# Altium schematic symbol library Andy_Parts.SchLib: 182 symbols (part 2 of 2)
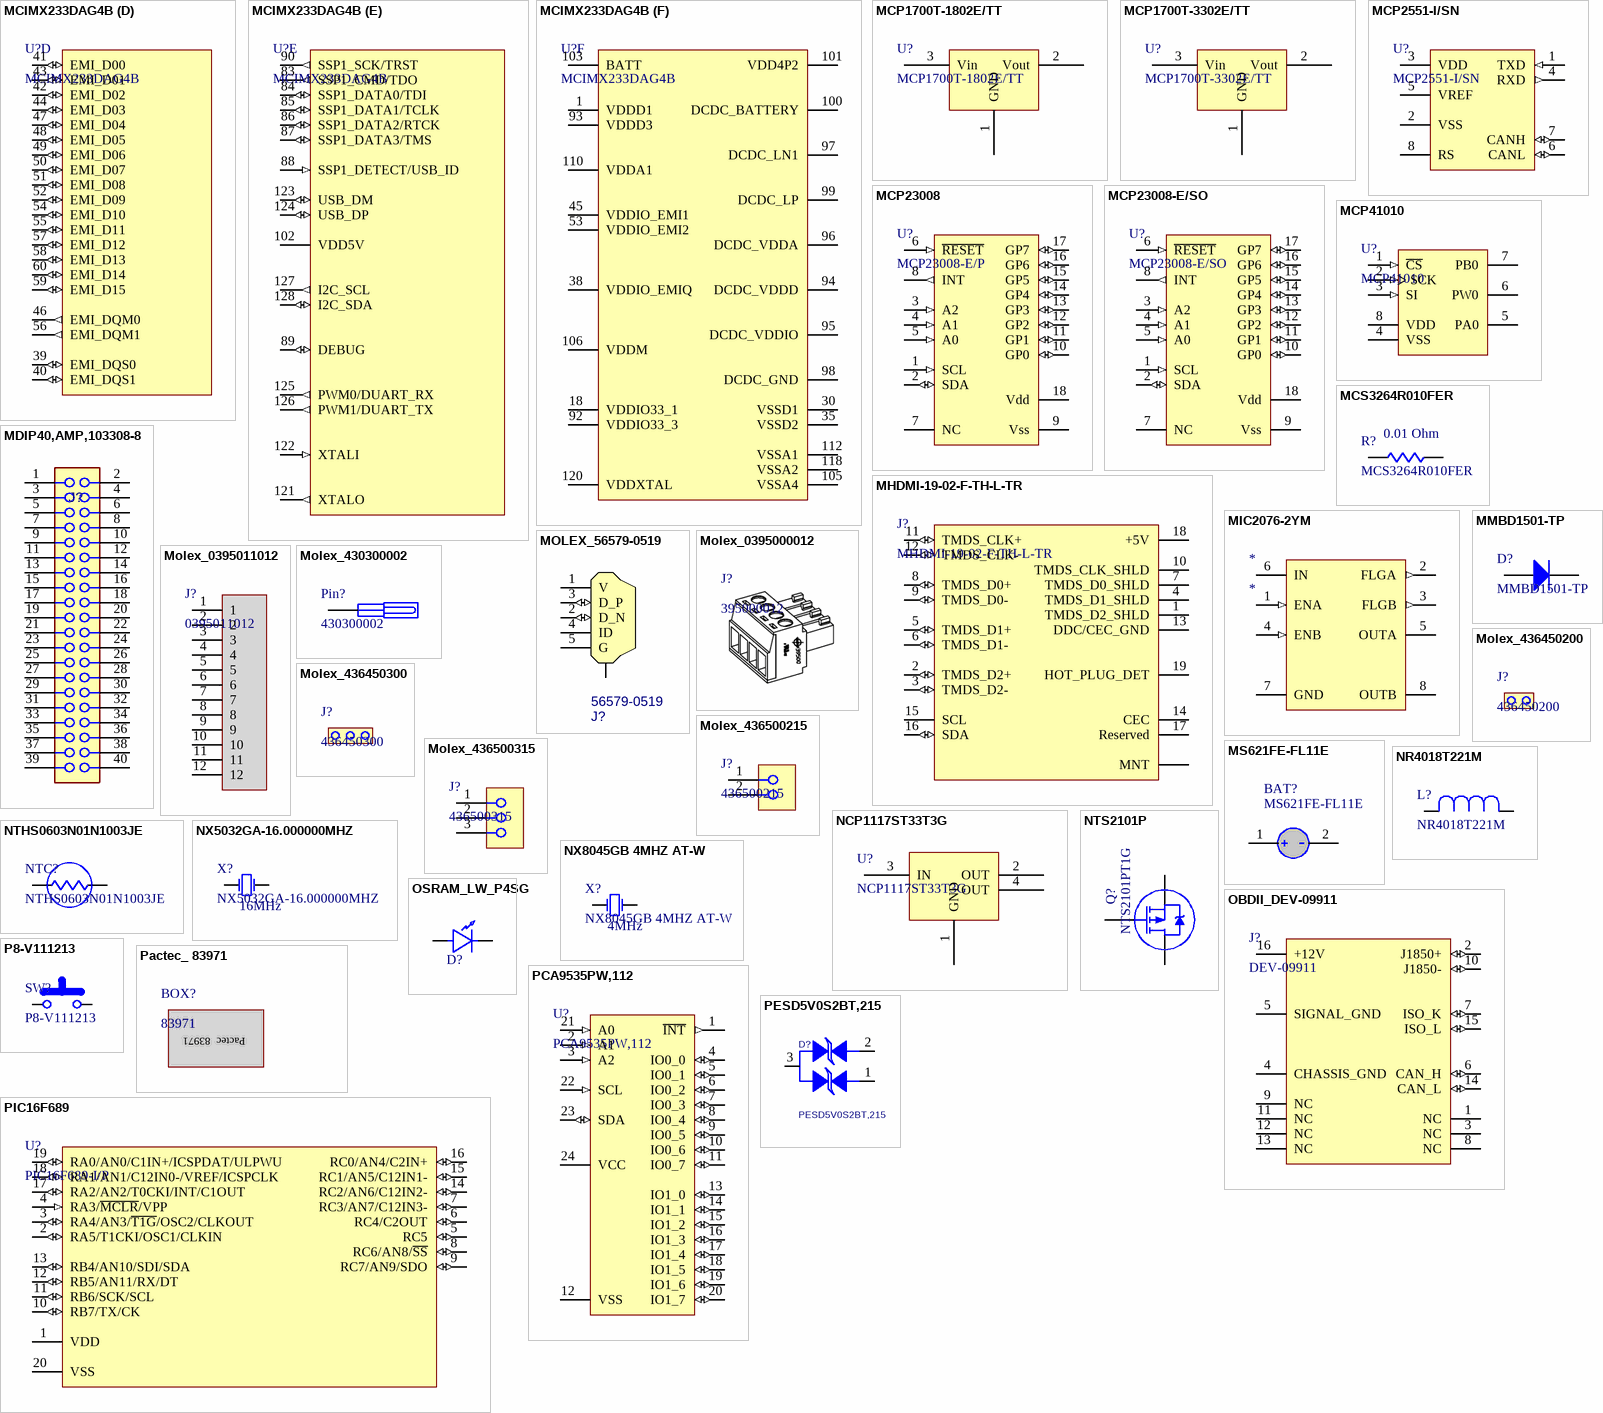
[diagram p9: symbols MCIMX233DAG4B to PIC16F689]

## MCIMX233DAG4B
designator U?
MPU 32BIT I.MX233 128LQFP; Manufacturer: Freescale; PartNumber: MCIMX233DAG4B
footprint LQFP50P1600X2200X160-128N (LQFP, 128-Leads, Body 22.1x16.1mm (max), Pitch 0.50mm, IPC Medium Density)
part A pins: 21 GPMI_RDY1 (out), 31 GPMI_RDN (out), 32 GPMI_RDY0 (out), 33 GPMI_WRN (out), 34 GPMI_WPN (out), 81 GPMI_CE1N (out), 82 GPMI_CE0N (out), 91 PWM2 (out), 104 VDAC1 (out), 107 LRADC1, 108 LRADC0, 109 HPR, 111 HP_VGND (power), 113 HPL, 114 LINE1_INR, 115 LINE1_INL, 116 MIC, 117 VAG, 119 PSWITCH (in)
part B pins: 2 LCD_D00 (io), 3 LCD_D01 (io), 4 LCD_D02 (io), 5 LCD_D03 (io), 6 LCD_D04 (io), 7 LCD_D05 (io), 8 LCD_D06 (io), 9 LCD_D07 (io), 10 LCD_CS (out), 11 LCD_ENABLE (out), 12 LCD_RESET (out), 13 LCD_WR (out), 14 LCD_RS (out), 15 LCD_HSYNC (out), 16 LCD_VSYNC/LCD_BUSY (out), 17 LCD_DOTCK (out), 19 GPMI_CLE/LCD_D16 (io), 20 GPMI_ALE/LCD_D17 (io), 22 GPMI_D00/LCD_D8 (io), 23 GPMI_D01/LCD_D9 (io), 24 GPMI_D02/LCD_D10 (io), 25 GPMI_D03/LCD_D11 (io), 26 GPMI_D05/LCD_D13 (io), 27 GPMI_D04/LCD_D12 (io), 28 GPMI_D07/LCD_D15 (io), 29 GPMI_D06/LCD_D14 (io)
part C pins: 36 EMI_CLK (out), 37 EMI_CLKN (out), 61 EMI_CASN (out), 62 EMI_RASN (out), 63 EMI_CE0N (out), 64 EMI_A12 (out), 65 EMI_A11 (out), 66 EMI_A10 (out), 67 EMI_A09 (out), 68 EMI_A08 (out), 69 EMI_A07 (out), 70 EMI_A06 (out), 71 EMI_A05 (out), 72 EMI_A04 (out), 73 EMI_A03 (out), 74 EMI_A02 (out), 75 EMI_A01 (out), 76 EMI_A00 (out), 77 EMI_WEN (out), 78 EMI_CKE (out), 79 EMI_BA0 (out), 80 EMI_BA1 (out)
part D pins: 39 EMI_DQS0 (io), 40 EMI_DQS1 (io), 41 EMI_D00 (io), 42 EMI_D02 (io), 43 EMI_D01 (io), 44 EMI_D03 (io), 46 EMI_DQM0 (out), 47 EMI_D04 (io), 48 EMI_D05 (io), 49 EMI_D06 (io), 50 EMI_D07 (io), 51 EMI_D08 (io), 52 EMI_D09 (io), 54 EMI_D10 (io), 55 EMI_D11 (io), 56 EMI_DQM1 (out), 57 EMI_D12 (io), 58 EMI_D13 (io), 59 EMI_D15 (io), 60 EMI_D14 (io)
part E pins: 83 SSP1_CMD/TDO (out), 84 SSP1_DATA0/TDI (io), 85 SSP1_DATA1/TCLK (io), 86 SSP1_DATA2/RTCK (io), 87 SSP1_DATA3/TMS (io), 88 SSP1_DETECT/USB_ID (in), 89 DEBUG (io), 90 SSP1_SCK/TRST (out), 102 VDD5V (power), 121 XTALO (out), 122 XTALI (in), 123 USB_DM (io), 124 USB_DP (io), 125 PWM0/DUART_RX (out), 126 PWM1/DUART_TX (out), 127 I2C_SCL (out), 128 I2C_SDA (io)
part F pins: 1 VDDD1 (power), 18 VDDIO33_1 (power), 30 VSSD1 (power), 35 VSSD2 (power), 38 VDDIO_EMIQ (power), 45 VDDIO_EMI1 (power), 53 VDDIO_EMI2 (power), 92 VDDIO33_3 (power), 93 VDDD3 (power), 94 DCDC_VDDD (power), 95 DCDC_VDDIO (power), 96 DCDC_VDDA (power), 97 DCDC_LN1, 98 DCDC_GND (power), 99 DCDC_LP, 100 DCDC_BATTERY (power), 101 VDD4P2 (power), 103 BATT (power), 105 VSSA4 (power), 106 VDDM (power), 110 VDDA1 (power), 112 VSSA1 (power), 118 VSSA2 (power), 120 VDDXTAL (power)

## MCP1700T-1802E/TT
designator U?
IC LDO REG 250MA 1.8V SOT-23-3; Manufacturer: Microchip Technology; PartNumber: MCP1700T-1802E/TT
footprint SOT23 (SOT23, 3-Leads, Body 3.0x2.6mm, Pitch 0.95mm)
pins: 1 GND (power), 2 Vout (power), 3 Vin (power)

## MCP1700T-3302E/TT
designator U?
IC LDO REG 250MA 3.3V SOT-23-3; Manufacturer: Microchip Technology; PartNumber: MCP1700T-3302E/TT
footprint SOT23 (SOT23, 3-Leads, Body 3.0x2.6mm, Pitch 0.95mm)
pins: 1 GND (power), 2 Vout (power), 3 Vin (power)

## MCP2551-I/SN
designator U?
IC TRANSCEIVER CAN HI-SPD 8-SOIC; Manufacturer: Microchip Technology; PartNumber: MCP2551-I/SN
footprint SOIC8N (SOIC, 8-Leads, Body 5.0x4.0mm (max), Pitch 1.27mm, IPC Medium Density)
pins: 1 TXD (in), 2 VSS (power), 3 VDD (power), 4 RXD (out), 5 VREF, 6 CANL (io), 7 CANH (io), 8 RS

## MCP23008
designator U?, comment MCP23008-E/P
8-bit IO Expander, I2C; Manufacturer: Microchip; PartNumber: MCP23008-E/P
footprint DIP 18 (DIP; 18 Leads; Row Spacing 7.62 mm; Pitch 2.54 mm)
pins: 1 SCL (in), 2 SDA (io), 3 A2 (in), 4 A1 (in), 5 A0 (in), 6 ~{RESET} (in), 7 NC, 8 INT (out), 9 Vss (power), 10 GP0 (io), 11 GP1 (io), 12 GP2 (io), 13 GP3 (io), 14 GP4 (io), 15 GP5 (io), 16 GP6 (io), 17 GP7 (io), 18 Vdd (power)

## MCP23008-E/SO
designator U?
8-bit IO Expander, I2C, SOIC; Manufacturer: Microchip; PartNumber: MCP23008-E/SO
footprint SOIC127P1030X75-18N (SOIC, 18-Leads, Body 11.5x7.5mm (max), Pitch 1.27mm, IPC Medium Density)
pins: 1 SCL (in), 2 SDA (io), 3 A2 (in), 4 A1 (in), 5 A0 (in), 6 ~{RESET} (in), 7 NC, 8 INT (out), 9 Vss (power), 10 GP0 (io), 11 GP1 (io), 12 GP2 (io), 13 GP3 (io), 14 GP4 (io), 15 GP5 (io), 16 GP6 (io), 17 GP7 (io), 18 Vdd (power)

## MCP41010
designator U?
Digital potentiometer w/ SPI interface; Manufacturer: Microchip; PartNumber: MCP41010
footprint DIP 8 (DIP, Plastic; 8 Leads; Row Spacing 7.62 mm; Pitch 2.54 mm)
pins: 1 ~{CS} (in), 2 SCK (in), 3 SI (in), 4 VSS (power), 5 PA0, 6 PW0, 7 PB0, 8 VDD (power)

## MCS3264R010FER
designator R?  value 0.01 Ohm
RES CURRENT SENSE .010 OHM 2W 1%; Manufacturer: Ohmite; PartNumber: MCS3264R010FER
footprint R2512 (Chip Resistor, 2-Leads, Body 6.4x3.2mm, IPC High Density)
pins: 1, 2

## MDIP40,AMP,103308-8
designator J?, comment 103308-8  (value not drawn)
.100 Inch Centerline-AMPMODU Shrouded Header, 40 pin; Manufacturer: Tyco/AMP; Approved: Yes by Implementation; TargetLibrary: Signal Connectors; LeadFree: No; PartNumber: 103308-8; Published: 8/6/2009; Publisher: Vanteon; RoHS: No; ComponentLink1Description: Product Page; ComponentLink1URL: http://www.tycoelectronics.com/catalog/bin/TE.Connect?C=1&M=BYPN&TCPN=103308-8&RQPN=103308-8; Status: Active; Supplier 1: Digi-Key; Supplier Part Number 1: A26279-ND
footprint MDIP40,AMP,103308-8
pins: 1, 2, 3, 4, 5, 6, 7, 8, 9, 10, 11, 12, 13, 14, 15, 16, 17, 18, 19, 20, 21, 22, 23, 24, 25, 26, 27, 28, 29, 30, 31, 32, 33, 34, 35, 36, 37, 38, 39, 40

## MHDMI-19-02-F-TH-L-TR
designator J?
Samtec Mini HDMI Connector; Manufacturer: Samtec; PartNumber: MHDMI-19-02-F-TH-L-TR
footprint Mini_HDMI (Samtec Mini HDMI Connector)
pins: 1 TMDS_D2_SHLD (power), 2 TMDS_D2+ (io), 3 TMDS_D2- (io), 4 TMDS_D1_SHLD (power), 5 TMDS_D1+ (io), 6 TMDS_D1- (io), 7 TMDS_D0_SHLD (power), 8 TMDS_D0+ (io), 9 TMDS_D0- (io), 10 TMDS_CLK_SHLD (power), 11 TMDS_CLK+ (io), 12 TMDS_CLK- (io), 13 DDC/CEC_GND (power), 14 CEC, 15 SCL, 16 SDA (io), 17 Reserved, 18 +5V (power), 19 HOT_PLUG_DET, MNT (power)

## MIC2076-2YM
designator *
footprint SOIC8N (SOIC, 8-Leads, Body 5.0x4.0mm (max), Pitch 1.27mm, IPC Medium Density)
pins: 1 ENA (in), 2 FLGA (out), 3 FLGB (out), 4 ENB (in), 5 OUTA (power), 6 IN (power), 7 GND (power), 8 OUTB (power)

## MMBD1501-TP
designator D?
Fast recovery diode, 600mA, 180V; Manufacturer: Micro Commercial Co.; PartNumber: MMBD1501-TP
footprint SOT23 (SOT23, 3-Leads, Body 3.0x2.6mm, Pitch 0.95mm)
pins: 1 A, 3 K

## MOLEX_56579-0519
designator J?, comment 56579-0519
USB - mini AB, OTG; Manufacturer: Molex; PartNumber: 56579-0519
footprint MOLEX_56579-0519 (USB Mini Type AB OTG, Through Hole, Molex)
pins: 1 V (power), 2 D_N (io), 3 D_P (io), 4 ID, 5 G (power), MNT

## Molex_0395000012
designator J?, comment 395000012
3.50mm (.138") Pitch Eurostyle Horizontal Plug, 12 Circuits; Manufacturer: Molex; PartNumber: 395000012
footprint Molex_395000012 (Molex 395000012 footprint)

## Molex_0395011012
designator J?, comment 0395011012
3.50mm (.138") Pitch Eurostyle Vertical PCB Header, 12 Circuits; Manufacturer: Molex; PartNumber: 0395011012
footprint Molex_395011012 (Molex 395011012 footprint)
pins: 1, 2, 3, 4, 5, 6, 7, 8, 9, 10, 11, 12

## Molex_430300002
designator Pin?, comment 430300002  (mechanical)
Pins for Molex Microfit receptacles; PartNumber: 430300002; Manufacturer: Molex; Supplier 1: Digi-Key

## Molex_436450200
designator J?, comment 436450200  (mechanical)
Molex 2 pin Microfit receptacle; PartNumber: 436450200; Manufacturer: Molex; Supplier 1: Digi-Key

## Molex_436450300
designator J?, comment 436450300  (mechanical)
Molex 3 pin Microfit receptacle; PartNumber: 436450300; Manufacturer: Molex; Supplier 1: Digi-Key

## Molex_436500215
designator J?, comment 436500215
2 pin Microfit header; Manufacturer: Molex; PartNumber: 436500215; Supplier 1: Digi-Key
footprint Microfit 2 pin (Molex Microfit header, 2 pin)
pins: 1, 2

## Molex_436500315
designator J?, comment 436500315
3 pin Microfit header; Manufacturer: Molex; PartNumber: 436500315; Supplier 1: Digi-Key
footprint Microfit 3 pin (Molex Microfit header, 3 pin)
pins: 1, 2, 3

## MS621FE-FL11E
designator BAT?
BATTERY LITHIUM 3.1V RECHARGE; Manufacturer: Seiko Instruments; Capacity: 5.5mAh; PartNumber: MS621FE-FL11E; Voltage: 3.1V
footprint MS621FE-FL11E (6.8mm diameter rechargeable coin cell battery)
pins: 1 (power), 2 (power)

## NCP1117ST33T3G
designator U?
3.3V LDO, 1A, SOT-223; Manufacturer: ON Semiconductor; PartNumber: NCP1117ST33T3G; Supplier 1: Digi-Key
footprint SOT223 (SOT223, 4-Leads, Body 6.7x7.3mm (max), Pitch 2.30mm)
pins: 1 GND (power), 2 OUT (power), 3 IN (power), 4 OUT (power)

## NR4018T221M
designator L?
220uH inductor, 4.8Ohm, 170mA, 20%; Manufacturer: Taiyo Yuden; PartNumber: NR4018T221M
footprint NR4018 (Taiyo Yuden NR4018 series inductor footprint)
pins: 1, 2

## NTHS0603N01N1003JE
designator NTC?
THERMISTOR NTC 100K OHM 5% 0603; Manufacturer: Vishay/Dale; PartNumber: NTHS0603N01N1003JE
footprint R0603 (Chip Resistor, 2-Leads, Body 1.7x0.8mm, IPC High Density)
pins: 1, 2

## NTS2101P
designator Q?, comment NTS2101PT1G
P-channel Power MOSFET  -8.0 V, -1.4 A, SC-70; Manufacturer: ON Semiconductor; PartNumber: NTS2101PT1G
footprint SC70 (SOT23, 3-Leads, Body 2.2x2.4mm (max), Pitch 0.65mm)
pins: 1 G, 2 S, 3 D

## NX5032GA-16.000000MHZ
designator X?  value 16MHz
CRYSTAL 16.00 MHZ 8PF SMD; Manufacturer: NDK; PartNumber: NX5032GA-16.000000MHZ
footprint NX5032GA-16.000000MHZ (NDK NX5032GA series crystal footprint)
pins: 1 OSC1, 2 OSC2

## NX8045GB 4MHZ AT-W
designator X?  value 4MHz
CRYSTAL 4.00 MHZ 8PF SMD; Manufacturer: NDK; PartNumber: NX8045GB 4MHZ AT-W
footprint NX8045GB 4MHZ AT-W (NDK NX8045GB series crystal footprint)
pins: 1 OSC1, 2 OSC2

## OBDII_DEV-09911
designator J?, comment DEV-09911
OBD-II Connector; Manufacturer: SparkFun Electronics; PartNumber: DEV-09911
footprint DEV-09911 (OBD-II Connector)
pins: 1 NC, 2 J1850+ (io), 3 NC, 4 CHASSIS_GND (power), 5 SIGNAL_GND (power), 6 CAN_H (io), 7 ISO_K (io), 8 NC, 9 NC, 10 J1850- (io), 11 NC, 12 NC, 13 NC, 14 CAN_L (io), 15 ISO_L (io), 16 +12V (power)

## OSRAM_LW_P4SG
designator D?, comment White  (value not drawn)
OSRAM Bottom Mount White LED; PartNumber: LW P4SG-U2AA-5K8L-Z; Vf: 3.2V; Value: White; Manufacturer: OSRAM; Publisher: Vanteon
footprint OSRAM_BOTTOM_LED (Bottom Mount LED)
pins: A, C

## P8-V111213
designator SW?  (graphical)
VANDAL RESISTANT COMPACT PUSHBUTTON SWITCH; Manufacturer: OTTO Engineering; PartNumber: P8-V111213
pins: 1, 3

## Pactec_ 83971
designator BOX?, comment 83971  (graphical)
Pactec water tight  enclosure; Manufacturer: Pactec; PartNumber: 83971
text: Pactec  83971

## PCA9535PW,112
designator U?
IC I/O EXPANDER I2C 16B 24TSSOP; Manufacturer: NXP Semiconductors; PartNumber: PCA9535PW,112
footprint TSOP65P640X110-24N (TSOP, 24-Leads, Body 7.9x4.5mm (max), Pitch 0.65mm, IPC Medium Density)
pins: 1 ~{INT} (out), 2 A1 (in), 3 A2 (in), 4 IO0_0 (io), 5 IO0_1 (io), 6 IO0_2 (io), 7 IO0_3 (io), 8 IO0_4 (io), 9 IO0_5 (io), 10 IO0_6 (io), 11 IO0_7 (io), 12 VSS (power), 13 IO1_0 (io), 14 IO1_1 (io), 15 IO1_2 (io), 16 IO1_3 (io), 17 IO1_4 (io), 18 IO1_5 (io), 19 IO1_6 (io), 20 IO1_7 (io), 21 A0 (in), 22 SCL (in), 23 SDA (io), 24 VCC (power)

## PESD5V0S2BT,215
designator D?
DIODE BIDIR ESD PROTECT SOT23; Manufacturer: NXP Semiconductors; Voltage: 5V; PartNumber: PESD5V0S2BT,215
footprint SOT23 (SOT23, 3-Leads, Body 3.0x2.6mm, Pitch 0.95mm)
pins: 1, 2, 3

## PIC16F689
designator U?, comment PIC16F689-I/P
20MHz, 18 GPIO, 256 byte RAM, 4Kx14 program; Manufacturer: Microchip Technology; PartNumber: PIC16F689-I/P
footprint Skinny DIP 20 (Skinny DIP, 20 pins)
pins: 1 VDD (power), 2 RA5/T1CKI/OSC1/CLKIN (io), 3 RA4/AN3/~{T1G}/OSC2/CLKOUT (io), 4 RA3/~{MCLR}/VPP (in), 5 RC5 (io), 6 RC4/C2OUT (io), 7 RC3/AN7/C12IN3- (io), 8 RC6/AN8/~{SS} (io), 9 RC7/AN9/SDO (io), 10 RB7/TX/CK (io), 11 RB6/SCK/SCL (io), 12 RB5/AN11/RX/DT (io), 13 RB4/AN10/SDI/SDA (io), 14 RC2/AN6/C12IN2- (io), 15 RC1/AN5/C12IN1- (io), 16 RC0/AN4/C2IN+ (io), 17 RA2/AN2/T0CKI/INT/C1OUT (io), 18 RA1/AN1/C12IN0-/VREF/ICSPCLK (io), 19 RA0/AN0/C1IN+/ICSPDAT/ULPWU (io), 20 VSS (power)

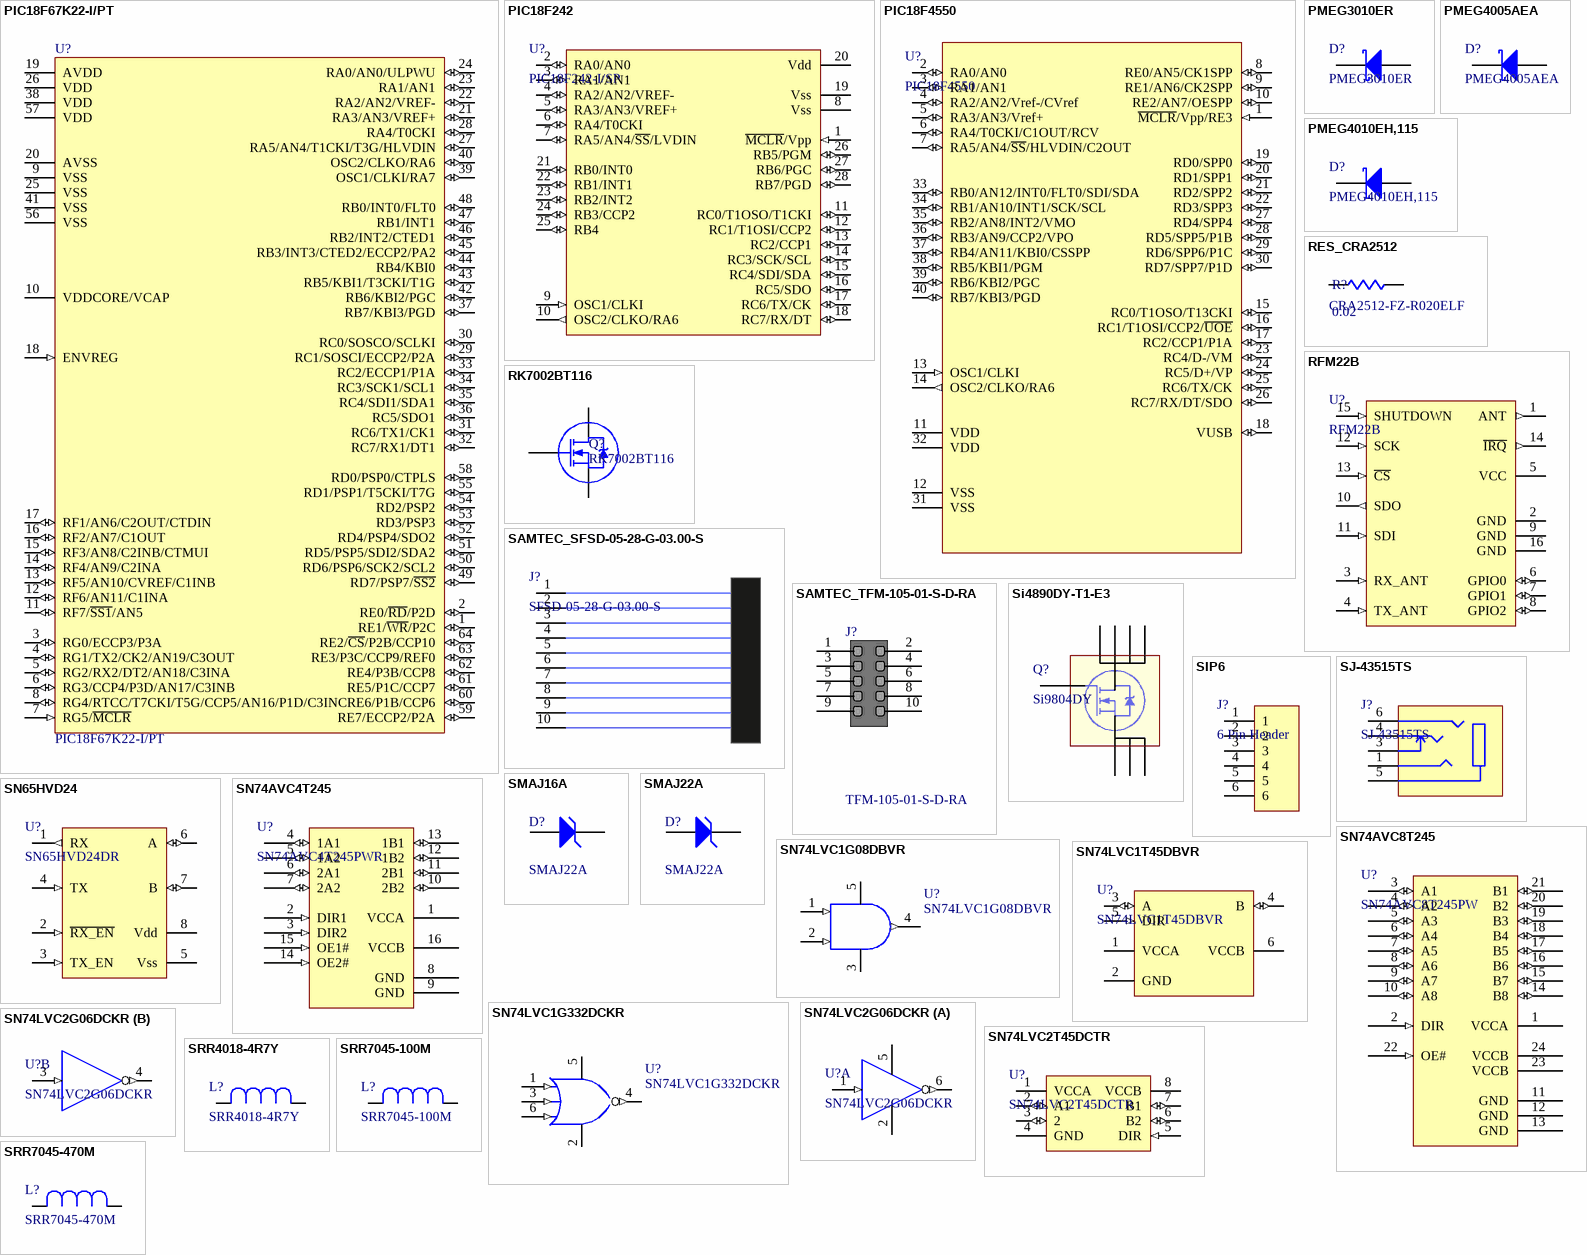
[diagram p7: symbols PIC18F67K22-I/PT to SRR7045-470M]

## PIC18F67K22-I/PT
designator U?
1-Mbit, Enhanced Flash Microcontroller with 12-Bit A/D and nanoWatt Technology, 128K Flash, 64-Pin TQFP, Extended Temperature Range; FirstPublished: 29-Jan-2009; DatasheetVersion: revC, Oct-2008; PackageVersion: revBB, Aug-2009; PackageReference: TQFP-PT64; Publisher: Altium Limited; PackageDescription: 64-Lead Thin Plastic Quad Flat Pack (PT) - 10x10x1mm Body, 2.00mm [TQFP]; ComponentLink1Description: Datasheet; ComponentLink1URL: http://ww1.microchip.com/downloads/en/DeviceDoc/39960b.pdf; ComponentLink2Description: Packaging Specification; ComponentLink2URL: http://www.microchip.com/stellent/groups/techpub_sg/documents/packagingspec/en012702.pdf; ComponentLink3Description: Microchip.com Home; ComponentLink3URL: http://www.microchip.com/; PartNumber: PIC18F67K22-I/PT
footprint TQFP-64_N (64-Pin Thin Plastic Quad Flat Pack 0.5 mm Pitch, 1.0/0.1 mm Lead Form, IPC Medium Density)
pins: 1 RE1/~{WR}/P2C (io), 2 RE0/~{RD}/P2D (io), 3 RG0/ECCP3/P3A (io), 4 RG1/TX2/CK2/AN19/C3OUT (io), 5 RG2/RX2/DT2/AN18/C3INA (io), 6 RG3/CCP4/P3D/AN17/C3INB (io), 7 RG5/~{MCLR} (in), 8 RG4/RTCC/T7CKI/T5G/CCP5/AN16/P1D/C3INC (io), 9 VSS (power), 10 VDDCORE/VCAP (power), 11 RF7/~{SS1}/AN5 (io), 12 RF6/AN11/C1INA (io), 13 RF5/AN10/CVREF/C1INB (io), 14 RF4/AN9/C2INA (io), 15 RF3/AN8/C2INB/CTMUI (io), 16 RF2/AN7/C1OUT (io), 17 RF1/AN6/C2OUT/CTDIN (io), 18 ENVREG (in), 19 AVDD (power), 20 AVSS (power), 21 RA3/AN3/VREF+ (io), 22 RA2/AN2/VREF- (io), 23 RA1/AN1 (io), 24 RA0/AN0/ULPWU (io), 25 VSS (power), 26 VDD (power), 27 RA5/AN4/T1CKI/T3G/HLVDIN (io), 28 RA4/T0CKI (io), 29 RC1/SOSCI/ECCP2/P2A (io), 30 RC0/SOSCO/SCLKI (io), 31 RC6/TX1/CK1 (io), 32 RC7/RX1/DT1 (io), 33 RC2/ECCP1/P1A (io), 34 RC3/SCK1/SCL1 (io), 35 RC4/SDI1/SDA1 (io), 36 RC5/SDO1 (io), 37 RB7/KBI3/PGD (io), 38 VDD (power), 39 OSC1/CLKI/RA7 (io), 40 OSC2/CLKO/RA6 (io), 41 VSS (power), 42 RB6/KBI2/PGC (io), 43 RB5/KBI1/T3CKI/T1G (io), 44 RB4/KBI0 (io), 45 RB3/INT3/CTED2/ECCP2/PA2 (io), 46 RB2/INT2/CTED1 (io), 47 RB1/INT1 (io), 48 RB0/INT0/FLT0 (io), 49 RD7/PSP7/~{SS2} (io), 50 RD6/PSP6/SCK2/SCL2 (io), 51 RD5/PSP5/SDI2/SDA2 (io), 52 RD4/PSP4/SDO2 (io), 53 RD3/PSP3 (io), 54 RD2/PSP2 (io), 55 RD1/PSP1/T5CKI/T7G (io), 56 VSS (power), 57 VDD (power), 58 RD0/PSP0/CTPLS (io), 59 RE7/ECCP2/P2A (io), 60 RE6/P1B/CCP6 (io), 61 RE5/P1C/CCP7 (io), 62 RE4/P3B/CCP8 (io), 63 RE3/P3C/CCP9/REF0 (io), 64 RE2/~{CS}/P2B/CCP10 (io)

## PIC18F242
designator U?, comment PIC18F242-I/SP
40MHz 8kx16 Flash microcontroller.  23 GPIO; Manufacturer: Microchip Technology; PartNumber: PIC18F242-I/SP
footprint Skinny DIP28 (Skinny DIP, 28 pins)
pins: 1 ~{MCLR}/Vpp (in), 2 RA0/AN0 (io), 3 RA1/AN1 (io), 4 RA2/AN2/VREF- (io), 5 RA3/AN3/VREF+ (io), 6 RA4/T0CKI (io), 7 RA5/AN4/~{SS}/LVDIN (io), 8 Vss (power), 9 OSC1/CLKI (in), 10 OSC2/CLKO/RA6 (out), 11 RC0/T1OSO/T1CKI (io), 12 RC1/T1OSI/CCP2 (io), 13 RC2/CCP1 (io), 14 RC3/SCK/SCL (io), 15 RC4/SDI/SDA (io), 16 RC5/SDO (io), 17 RC6/TX/CK (io), 18 RC7/RX/DT (io), 19 Vss (power), 20 Vdd (power), 21 RB0/INT0 (io), 22 RB1/INT1 (io), 23 RB2/INT2 (io), 24 RB3/CCP2 (io), 25 RB4 (io), 26 RB5/PGM (io), 27 RB6/PGC (io), 28 RB7/PGD (io)

## PIC18F4550
designator U?
8 Bit USB FS microcontroller; Manufacturer: Microchip; PartNumber: PIC18F4550
footprint DIP 40 (DIP, Plastic; 40 Leads; Row Spacing 15.24 mm; Pitch 2.54 mm)
pins: 1 ~{MCLR}/Vpp/RE3 (in), 2 RA0/AN0 (io), 3 RA1/AN1 (io), 4 RA2/AN2/Vref-/CVref (io), 5 RA3/AN3/Vref+ (io), 6 RA4/T0CKI/C1OUT/RCV (io), 7 RA5/AN4/~{SS}/HLVDIN/C2OUT (io), 8 RE0/AN5/CK1SPP (io), 9 RE1/AN6/CK2SPP (io), 10 RE2/AN7/OESPP (io), 11 VDD (power), 12 VSS (power), 13 OSC1/CLKI (in), 14 OSC2/CLKO/RA6 (out), 15 RC0/T1OSO/T13CKI (io), 16 RC1/T1OSI/CCP2/~{UOE} (io), 17 RC2/CCP1/P1A (io), 18 VUSB (io), 19 RD0/SPP0 (io), 20 RD1/SPP1 (io), 21 RD2/SPP2 (io), 22 RD3/SPP3 (io), 23 RC4/D-/VM (io), 24 RC5/D+/VP (io), 25 RC6/TX/CK (io), 26 RC7/RX/DT/SDO (io), 27 RD4/SPP4 (io), 28 RD5/SPP5/P1B (io), 29 RD6/SPP6/P1C (io), 30 RD7/SPP7/P1D (io), 31 VSS (power), 32 VDD (power), 33 RB0/AN12/INT0/FLT0/SDI/SDA (io), 34 RB1/AN10/INT1/SCK/SCL (io), 35 RB2/AN8/INT2/VMO (io), 36 RB3/AN9/CCP2/VPO (io), 37 RB4/AN11/KBI0/CSSPP (io), 38 RB5/KBI1/PGM (io), 39 RB6/KBI2/PGC (io), 40 RB7/KBI3/PGD (io)

## PMEG3010ER
designator D?
1 A low VF MEGA Schottky barrier rectifier; Manufacturer: NXP Semiconductors; PartNumber: PMEG3010ER
footprint SOD123W (Diode SOD123, Gull-wing)
pins: 1 K, 2 A

## PMEG4005AEA
designator D?
0.5A very low Vf MEGA Schottky barrier rectifier; Manufacturer: NXP Semiconductors; PartNumber: PMEG4005AEA
footprint SOD323_1_2 (SOD-323)
pins: 1 K, 2 A

## PMEG4010EH,115
designator D?
1A, 40V low VF MEGA Schottky barrier rectifier; Manufacturer: NXP Semiconductors; Vf: 640mV @ 1A; PartNumber: PMEG4010EH,115
footprint SOD123W (Diode SOD123, Gull-wing)
pins: 1 K, 2 A

## RES_CRA2512
designator R?, comment 0.02  PartNumber: CRA2512-FZ-R020ELF
0.02 Ohm current sense resistor, R2512 3W 1%; Manufacturer: Bourns; Voltage: 200; MetricFootprint: R6432MM; Value: 0.02; Tolerance: 1%; Material: Thick-Film; Watts: 3W; LeadFree: Yes; RoHS: Yes; Publisher: AltiumDBManager1.1; Pin Count: 2
footprint R2512 (Chip Resistor, 2-Leads, Body 6.4x3.2mm, IPC High Density)
pins: 1, 2

## RFM22B
designator U?
ISM TRANSCEIVER MODULE; Manufacturer: Sparkfun Electronics; PartNumber: RFM22B
footprint RFM22B (Footprint for RFM22B)
pins: 1 ANT (out), 2 GND (power), 3 RX_ANT (in), 4 TX_ANT (in), 5 VCC (power), 6 GPIO0 (io), 7 GPIO1 (io), 8 GPIO2 (io), 9 GND (power), 10 SDO (out), 11 SDI (in), 12 SCK (in), 13 ~{CS} (in), 14 ~{IRQ} (out), 15 SHUTDOWN (in), 16 GND (power)

## RK7002BT116
designator Q?
NMOS, 60V, 0.25A, 2.4 Ohm; Manufacturer: Rohm Semiconductor; RDSon: 2.4 Ohm; PartNumber: RK7002BT116
footprint SOT23 (SOT23, 3-Leads, Body 3.0x2.6mm, Pitch 0.95mm)
pins: 1 G, 2 S, 3 D

## SAMTEC_SFSD-05-28-G-03.00-S
designator J?, comment SFSD-05-28-G-03.00-S  (mechanical)
Samtec 1- pin flying lead connector; Manufacturer: Samtec; PartNumber: SFSD-05-28-G-03.00-S
pins: 1, 2, 3, 4, 5, 6, 7, 8, 9, 10

## SAMTEC_TFM-105-01-S-D-RA
designator J?, comment TFM-105-01-S-D-RA
10 Pin R/A terminal strip, 0.050" pin pitch; Manufacturer: Samtec; Approved: Yes - J. Johnson; TargetLibrary: ImperialConnectors; PartNumber: TFM-105-01-S-D-RA; ComponentLink1Description: Datasheet; ComponentLink1URL: http://www.samtec.com/documents/webfiles/pdf/TFM_TH.PDF; LeadFree: Yes; Published: 2/15/2010; Publisher: AHonecker - Vanteon; RoHS: Yes; Status: Active
footprint SAMTEC_TFM-105-01-S-D-RA (10 pin R/A 0.050" pin pitch male shrouded header)
pins: 1, 2, 3, 4, 5, 6, 7, 8, 9, 10

## Si4890DY-T1-E3
designator Q?, comment Si9804DY
N-Channel Reduced Qg, Fast Switching MOSFET, 30V, 11A; Manufacturer: Vishay Siliconix; PartNumber: Si9804DY
footprint SOIC8N (SOIC, 8-Leads, Body 5.0x4.0mm (max), Pitch 1.27mm, IPC Medium Density)
pins: 1 Source, 2 Source, 3 Source, 4 Gate, 5 Drain, 6 Drain, 7 Drain, 8 Drain

## SIP6
designator J?, comment 6 Pin Header
6 pin, 100mil spacing header
footprint SIP6,38D
pins: 1, 2, 3, 4, 5, 6

## SJ-43515TS
designator J?
CONN 3.5MM AUDIO JACK W/TIP SHNT; Manufacturer: CUI Inc.; PartNumber: SJ-43515TS
footprint SJ-43515TS (CUI 3.5mm 4 position audio jack)
pins: 1 RING1, 3 SWITCH, 4 TIP, 5 SLEEVE, 6 RING2

## SMAJ16A
designator D?, comment SMAJ22A
Transient voltage suppressor diode, 16V, uni; Manufacturer: Bourns; Breakdown: 17.8V; PartNumber: SMAJ22A; Voltage: 16V
footprint SMA,2.8mm (DO-214AC/SMA)
pins: 1 A, 2 K

## SMAJ22A
designator D?
Transient voltage suppressor diode, 22V, uni; Manufacturer: Littlefuse; PartNumber: SMAJ22A; Voltage: 22V
footprint SMA,2.8mm (DO-214AC/SMA)
pins: 1 A, 2 K

## SN65HVD24
designator U?, comment SN65HVD24DR
Extended common mode RS-485 tranceivers, half-duplex; Manufacturer: Texas Instruments; PartNumber: SN65HVD24DR
footprint SOIC8N (SOIC, 8-Leads, Body 5.0x4.0mm (max), Pitch 1.27mm, IPC Medium Density)
pins: 1 RX (out), 2 ~{RX_EN} (in), 3 TX_EN (in), 4 TX (in), 5 Vss (power), 6 A (io), 7 B (io), 8 Vdd (power)

## SN74AVC4T245
designator U?, comment SN74AVC4T245PWR
4-Bit Dual-Supply Bus Transceiver; Manufacturer: Texas Instruments; PartNumber: SN74AVC4T245PWR
footprint TSSOP16 (SSOP, 16-Leads, Body 5.1x4.5mm (max), Pitch 0.65mm, IPC Medium Density)
pins: 1 VCCA (power), 2 DIR1 (in), 3 DIR2 (in), 4 1A1 (io), 5 1A2 (io), 6 2A1 (io), 7 2A2 (io), 8 GND (power), 9 GND (power), 10 2B2 (io), 11 2B1 (io), 12 1B2 (io), 13 1B1 (io), 14 OE2# (in), 15 OE1# (in), 16 VCCB (power)

## SN74AVC8T245
designator U?, comment SN74AVC8T245PW
8-BIT DUAL-SUPPLY BUS TRANSCEIVER; Manufacturer: Texas Instruments; PartNumber: SN74AVC8T245PW
footprint TSOP65P640X120-24N (TSOP, 24-Leads, Body 7.9x4.5mm (max), Pitch 0.65mm, IPC Medium Density)
pins: 1 VCCA (power), 2 DIR (in), 3 A1 (io), 4 A2 (io), 5 A3 (io), 6 A4 (io), 7 A5 (io), 8 A6 (io), 9 A7 (io), 10 A8 (io), 11 GND (power), 12 GND (power), 13 GND (power), 14 B8 (io), 15 B7 (io), 16 B6 (io), 17 B5 (io), 18 B4 (io), 19 B3 (io), 20 B2 (io), 21 B1 (io), 22 OE# (in), 23 VCCB (power), 24 VCCB (power)

## SN74LVC1G08DBVR
designator U?
Single-Gate AND, SOT23-5; Manufacturer: Texas Instrumenets; PartNumber: SN74LVC1G08DBVR
footprint SOT-23-5 (SOT23, 5-Leads, Body 3.0x3.0mm (max), Pitch 0.95mm, IPC Medium Density)
pins: 1 A (in), 2 B (in), 3 GND (power), 4 Y (out), 5 VCC (power)

## SN74LVC1G332DCKR
designator U?
Single-Gate 3-input positive NOR; Manufacturer: Texas Instruments; PartNumber: SN74LVC1G332DCKR
footprint SC70-6P210X110-6N (SC-70, 6-Leads, Body 2.2x2.4mm (max), Pitch 0.65mm, IPC Medium Density)
pins: 1 A (in), 2 GND (power), 3 B (in), 4 Y (out), 5 VCC (power), 6 C (in)

## SN74LVC1T45DBVR
designator U?
Single bit, dual-supply bus transceiver; Manufacturer: Texas Instruments; PartNumber: SN74LVC1T45DBVR
footprint SOT23-6_95P280X145 (SOT23, 6-Leads, Body 3.0x3.0mm (max), Pitch 0.95mm, IPC Medium Density)
pins: 1 VCCA (power), 2 GND (power), 3 A (io), 4 B (io), 5 DIR (in), 6 VCCB (power)

## SN74LVC2G06DCKR
designator U?
Dual gate inverter w/ open drain outputs; Manufacturer: Texas Instruments; PartNumber: SN74LVC2G06DCKR
footprint SC70-6P210X110-6N (SC-70, 6-Leads, Body 2.2x2.4mm (max), Pitch 0.65mm, IPC Medium Density)
part A pins: 1 In (in), 2 GND (power), 5 VCC (power), 6 Out (out)
part B pins: 3 In (in), 4 Out (out)

## SN74LVC2T45DCTR
designator U?
IC BUS TRANSCVR 2BIT N-INV SM8; Manufacturer: Texas Instruments; PartNumber: SN74LVC2T45DCTR
footprint SOIC8N (SOIC, 8-Leads, Body 5.0x4.0mm (max), Pitch 1.27mm, IPC Medium Density)
pins: 1 VCCA (power), 2 A1 (io), 3 2 (io), 4 GND (power), 5 DIR (in), 6 B2 (io), 7 B1 (io), 8 VCCB (power)

## SRR4018-4R7Y
designator L?
47uH shielded inductor, +/-30%; Manufacturer: Bourns; SaturationCurrent: 1.5A; PartNumber: SRR4018-4R7Y
footprint BOURNS_SRR4018 (Bourns SRR4018 series inductor footprint)
pins: 1, 2

## SRR7045-100M
designator L?
10uH shielded inductor, +/-20%; Manufacturer: Bourns; PartNumber: SRR7045-100M
footprint Bourns_SRR7045_Series (Bourns SRR7045 series inductors)
pins: 1, 2

## SRR7045-470M
designator L?
47uH shielded inductor, +/-20%; Manufacturer: Bourns; PartNumber: SRR7045-470M
footprint Bourns_SRR7045_Series (Bourns SRR7045 series inductors)
pins: 1, 2

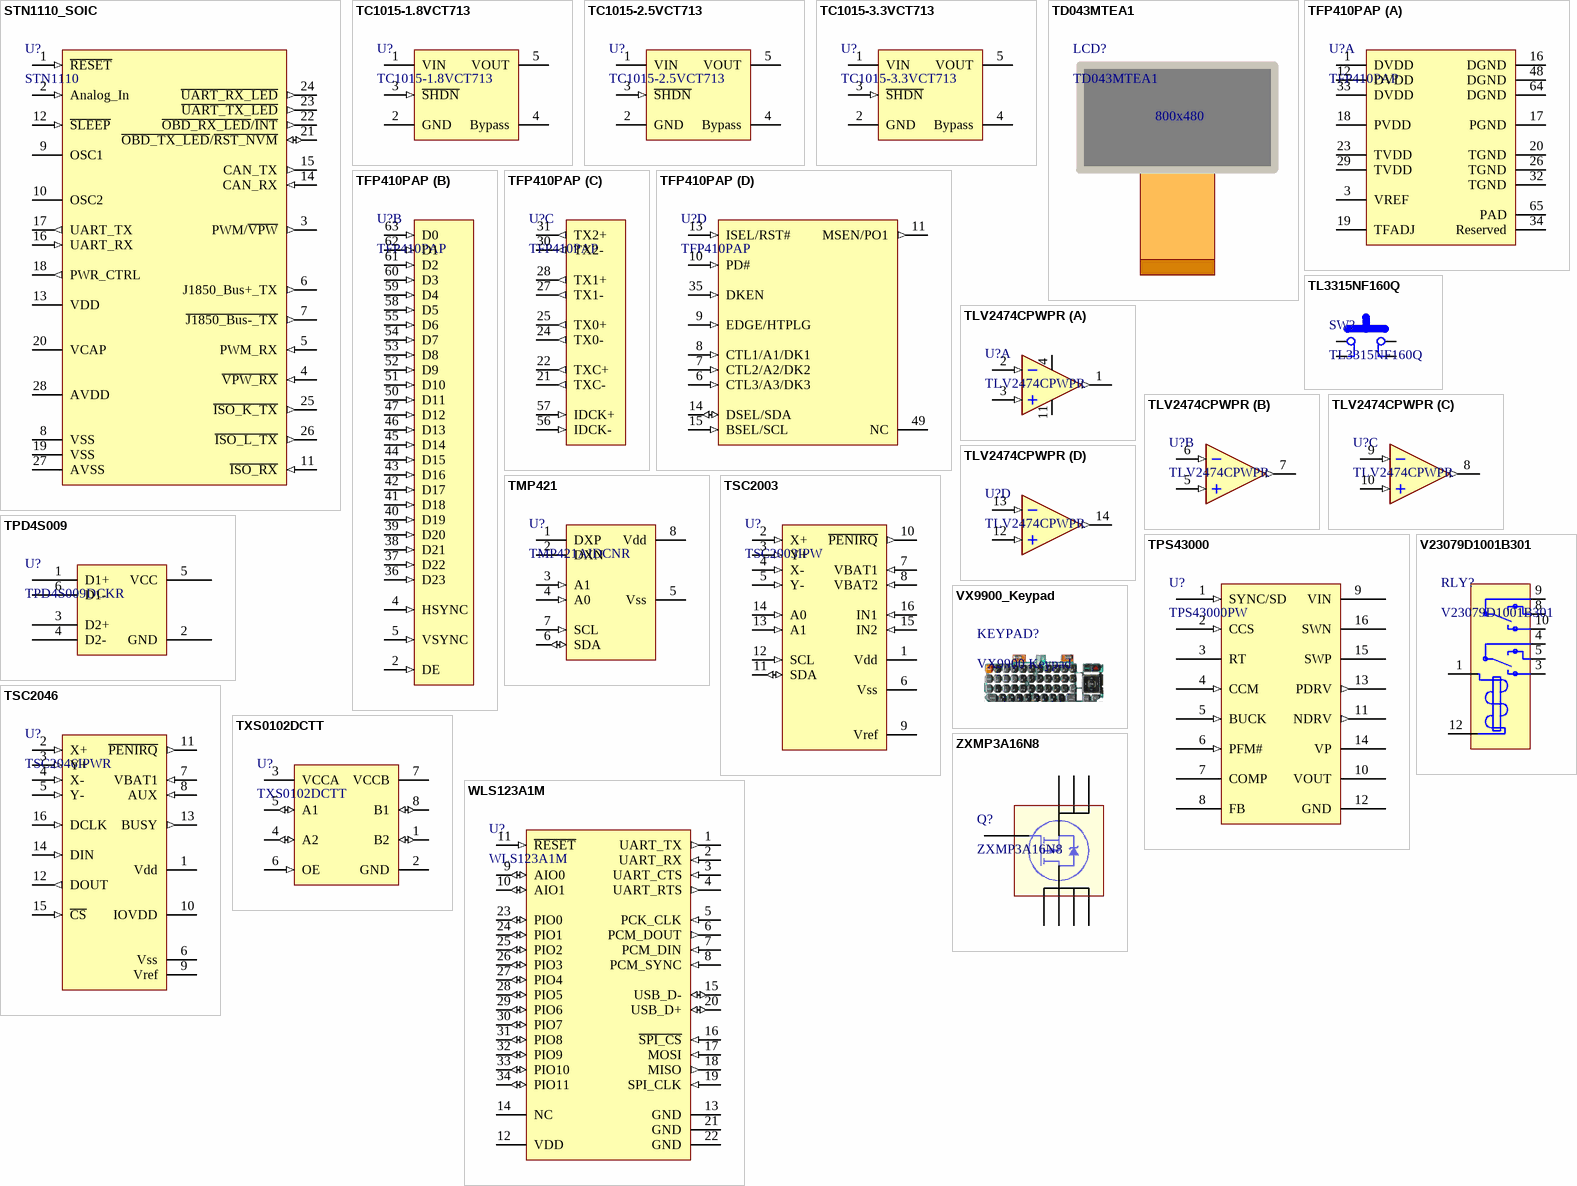
[diagram p8: symbols STN1110_SOIC to ZXMP3A16N8]

## STN1110_SOIC
designator U?, comment STN1110
ELM327 Improved Replacement; Multiprotocol OBDII Scanner; Manufacturer: ScanTool.net; PartNumber: STN1110
footprint SOIC127P1030X264-28N (SOIC, 28-Leads, Body 18.1x7.6mm (max), Pitch 1.27mm, IPC Medium Density)
pins: 1 ~{RESET} (in), 2 Analog_In (in), 3 PWM/~{VPW} (out), 4 ~{VPW_RX} (in), 5 PWM_RX (in), 6 J1850_Bus+_TX (out), 7 ~{J1850_Bus-_TX} (out), 8 VSS (power), 9 OSC1, 10 OSC2, 11 ~{ISO_RX} (in), 12 ~{SLEEP} (in), 13 VDD (power), 14 CAN_RX (in), 15 CAN_TX (out), 16 UART_RX (in), 17 UART_TX (out), 18 PWR_CTRL (out), 19 VSS (power), 20 VCAP (power), 21 ~{OBD_TX_LED}/~{RST_NVM} (io), 22 ~{OBD_RX_LED}/~{INT} (out), 23 ~{UART_TX_LED} (out), 24 ~{UART_RX_LED} (out), 25 ~{ISO_K_TX} (out), 26 ~{ISO_L_TX} (out), 27 AVSS (power), 28 AVDD (power)

## TC1015-1.8VCT713
designator U?
IC REG LDO 1.8V 100MA SOT23-5; Manufacturer: Microchip Technology; PartNumber: TC1015-1.8VCT713
footprint SOT-23-5 (SOT23, 5-Leads, Body 3.0x3.0mm (max), Pitch 0.95mm, IPC Medium Density)
pins: 1 VIN (power), 2 GND (power), 3 ~{SHDN} (in), 4 Bypass, 5 VOUT (power)

## TC1015-2.5VCT713
designator U?
IC REG LDO 2.5V 100MA SOT23A-5; Manufacturer: Microchip Technology; PartNumber: TC1015-2.5VCT713
footprint SOT-23-5 (SOT23, 5-Leads, Body 3.0x3.0mm (max), Pitch 0.95mm, IPC Medium Density)
pins: 1 VIN (power), 2 GND (power), 3 ~{SHDN} (in), 4 Bypass, 5 VOUT (power)

## TC1015-3.3VCT713
designator U?
IC REG LDO 3.3V 100MA SOT23A-5; Manufacturer: Microchip Technology; PartNumber: TC1015-3.3VCT713
footprint SOT-23-5 (SOT23, 5-Leads, Body 3.0x3.0mm (max), Pitch 0.95mm, IPC Medium Density)
pins: 1 VIN (power), 2 GND (power), 3 ~{SHDN} (in), 4 Bypass, 5 VOUT (power)

## TD043MTEA1
designator LCD?
4.3" TFT LCD, 800x480; Manufacturer: Toppoly; PartNumber: TD043MTEA1
footprint Toppoly_4.3_LCD (4.3" Toppoly LCD)
text: 800x480

## TFP410PAP
designator U?
Panelbus DVI Transmitter, 165MHz; Manufacturer: Texas Instruments; PartNumber: TFP410PAP
footprint TSQFP50P1200X1200X105_HS-64N (TSQFP, 64-Leads, Body 12.2x12.2mm (max), Pitch 0.50mm, IPC Medium Density)
part A pins: 1 DVDD (power), 3 VREF (power), 12 DVDD (power), 16 DGND (power), 17 PGND (power), 18 PVDD (power), 19 TFADJ (power), 20 TGND (power), 23 TVDD (power), 26 TGND (power), 29 TVDD (power), 32 TGND (power), 33 DVDD (power), 34 Reserved, 48 DGND (power), 64 DGND (power), 65 PAD (power)
part B pins: 2 DE (in), 4 HSYNC (in), 5 VSYNC (in), 36 D23 (in), 37 D22 (in), 38 D21 (in), 39 D20 (in), 40 D19 (in), 41 D18 (in), 42 D17 (in), 43 D16 (in), 44 D15 (in), 45 D14 (in), 46 D13 (in), 47 D12 (in), 50 D11 (in), 51 D10 (in), 52 D9 (in), 53 D8 (in), 54 D7 (in), 55 D6 (in), 58 D5 (in), 59 D4 (in), 60 D3 (in), 61 D2 (in), 62 D1 (in), 63 D0 (in)
part C pins: 21 TXC- (out), 22 TXC+ (out), 24 TX0- (out), 25 TX0+ (out), 27 TX1- (out), 28 TX1+ (out), 30 TX2- (out), 31 TX2+ (out), 56 IDCK- (in), 57 IDCK+ (in)
part D pins: 6 CTL3/A3/DK3 (in), 7 CTL2/A2/DK2 (in), 8 CTL1/A1/DK1 (in), 9 EDGE/HTPLG (in), 10 PD# (in), 11 MSEN/PO1 (out), 13 ISEL/RST# (in), 14 DSEL/SDA (io), 15 BSEL/SCL (in), 35 DKEN (in), 49 NC

## TL3315NF160Q
designator SW?
Dome Tact SWITCHES SMT - LOW PROFILE; Manufacturer: E-Switch; PartNumber: TL3315NF160Q
footprint TL3315 (E-Switch Series TL3315 Switch)
pins: 1, 2, 3, 4

## TLV2474CPWPR
designator U?
600µA/Ch 2.8MHz RAIL-TO-RAIL INPUT/OUTPUT  HIGH-DRIVE OPERATIONAL AMPLIFIERS WITH SHUTDOWN; Manufacturer: Texas Instruments; PartNumber: TLV2474CPWPR
footprint SOIC14_127P600X175 (SOIC, 14-Leads, Body 8.8x4.0mm (max), Pitch 1.27mm, IPC High Density)
part A pins: 1 1OUT (out), 2 IN- (in), 3 IN+ (in), 4 V+ (power), 11 GND (power)
part B pins: 5 IN+ (in), 6 IN- (in), 7 1OUT (out)
part C pins: 8 1OUT (out), 9 IN- (in), 10 IN+ (in)
part D pins: 12 IN+ (in), 13 IN- (in), 14 1OUT (out)

## TMP421
designator U?, comment TMP421AIDCNR
+/- 1 degree C remote/local temp. sensor, I2C; Manufacturer: Texas Instruments; PartNumber: TMP421AIDCNR
footprint SOT-23-8L (SOT23, 8-Leads, Body 1.75x3mm (max), Pitch 0.65mm, IPC Medium Density)
pins: 1 DXP, 2 DXN, 3 A1 (in), 4 A0 (in), 5 Vss (power), 6 SDA (io), 7 SCL (in), 8 Vdd (power)

## TPD4S009
designator U?, comment TPD4S009DCKR
4 channel ESD solution for high speed differential interface; Manufacturer: Texas Instruments; PartNumber: TPD4S009DCKR
footprint SC70-6P210X110-6N (SC-70, 6-Leads, Body 2.2x2.4mm (max), Pitch 0.65mm, IPC Medium Density)
pins: 1 D1+, 2 GND (power), 3 D2+, 4 D2-, 5 VCC (power), 6 D1-

## TPS43000
designator U?, comment TPS43000PW
Multi-Topology (buck, boost, sepic) High Frequency DC/DC Controller; Manufacturer: Texas Instruments; PartNumber: TPS43000PW
footprint TSSOP16 (SSOP, 16-Leads, Body 5.1x4.5mm (max), Pitch 0.65mm, IPC Medium Density)
pins: 1 SYNC/SD (in), 2 CCS (in), 3 RT, 4 CCM (in), 5 BUCK (in), 6 PFM# (in), 7 COMP, 8 FB, 9 VIN (power), 10 VOUT (power), 11 NDRV (out), 12 GND (power), 13 PDRV (out), 14 VP (power), 15 SWP, 16 SWN

## TSC2003
designator U?, comment TSC2003IPW
4-wire resistive touch screen controller, I2C; Manufacturer: Texas Instruments; PartNumber: TSC2003IPW
footprint TSSOP16 (SSOP, 16-Leads, Body 5.1x4.5mm (max), Pitch 0.65mm, IPC Medium Density)
pins: 1 Vdd (power), 2 X+ (in), 3 Y+ (in), 4 X- (in), 5 Y- (in), 6 Vss (power), 7 VBAT1 (in), 8 VBAT2 (in), 9 Vref (power), 10 ~{PENIRQ} (out), 11 SDA (io), 12 SCL (in), 13 A1 (in), 14 A0 (in), 15 IN2 (in), 16 IN1 (in)

## TSC2046
designator U?, comment TSC2046IPWR
4-wire resistive touch screen controller, SPI; Manufacturer: Texas Instruments; PartNumber: TSC2046IPWR
footprint TSSOP16 (SSOP, 16-Leads, Body 5.1x4.5mm (max), Pitch 0.65mm, IPC Medium Density)
pins: 1 Vdd (power), 2 X+ (in), 3 Y+ (in), 4 X- (in), 5 Y- (in), 6 Vss (power), 7 VBAT1 (in), 8 AUX (in), 9 Vref (power), 10 IOVDD (power), 11 ~{PENIRQ} (out), 12 DOUT (out), 13 BUSY (out), 14 DIN (in), 15 ~{CS} (in), 16 DCLK (in)

## TXS0102DCTT
designator U?
2-BIT BIDIRECTIONAL VOLTAGE-LEVEL TRANSLATOR  FOR OPEN-DRAIN AND PUSH-PULL APPLICATIONS; Manufacturer: Texas Instruments; PartNumber: TXS0102DCTT
footprint TSOP65P400X130-8N (TSOP, 8-Leads, Body 3.2x2.9mm (max), Pitch 0.65mm, IPC Medium Density)
pins: 1 B2 (io), 2 GND (power), 3 VCCA (power), 4 A2 (io), 5 A1 (io), 6 OE (in), 7 VCCB (power), 8 B1 (io)

## V23079D1001B301
designator RLY?
5V DPDT SMT relay; Manufacturer: Tyco; Contact Current: 5A; Coil Current: 28mA; PartNumber: V23079D1001B301
footprint V23079_Relay (Tyco V23079 relay footprint, long-leads)
pins: 1 Coil, 3 NC, 4 Common, 5 NO, 8 NO, 9 Common, 10 NC, 12 Coil

## VX9900_Keypad
designator KEYPAD?, comment VX9900 Keypad
LG VX9900 Keypad; Manufacturer: LG; PartNumber: VX9900
footprint VX9900_keypad (VX9900 Keypad overlay mechanicals)

## WLS123A1M
designator U?
SeeedStudio CSR BC4 Bluetooth Serial Module; Manufacturer: SeeedStudio.com; PartNumber: WLS123A1M
footprint WLS123A1M (SeeedStudio Bluetooth serial module footprint)
pins: 1 UART_TX (out), 2 UART_RX (in), 3 UART_CTS (in), 4 UART_RTS (out), 5 PCK_CLK (in), 6 PCM_DOUT (out), 7 PCM_DIN (in), 8 PCM_SYNC (in), 9 AIO0 (io), 10 AIO1 (io), 11 ~{RESET} (in), 12 VDD (power), 13 GND (power), 14 NC, 15 USB_D- (io), 16 ~{SPI_CS} (in), 17 MOSI (in), 18 MISO (out), 19 SPI_CLK (in), 20 USB_D+ (io), 21 GND (power), 22 GND (power), 23 PIO0 (io), 24 PIO1 (io), 25 PIO2 (io), 26 PIO3 (io), 27 PIO4 (io), 28 PIO5 (io), 29 PIO6 (io), 30 PIO7 (io), 31 PIO8 (io), 32 PIO9 (io), 33 PIO10 (io), 34 PIO11 (io)

## ZXMP3A16N8
designator Q?
P-CHANNEL ENHANCEMENT MODE MOSFET, 30V, 6.7A; Manufacturer: Zetex Semiconductors; PartNumber: ZXMP3A16N8
footprint SOIC8N (SOIC, 8-Leads, Body 5.0x4.0mm (max), Pitch 1.27mm, IPC Medium Density)
pins: 1 Source, 2 Source, 3 Source, 4 Gate, 5 Drain, 6 Drain, 7 Drain, 8 Drain